# EAGLE library part PINHD-2X11 (library dpx-pinhead+)
PIN HEADER
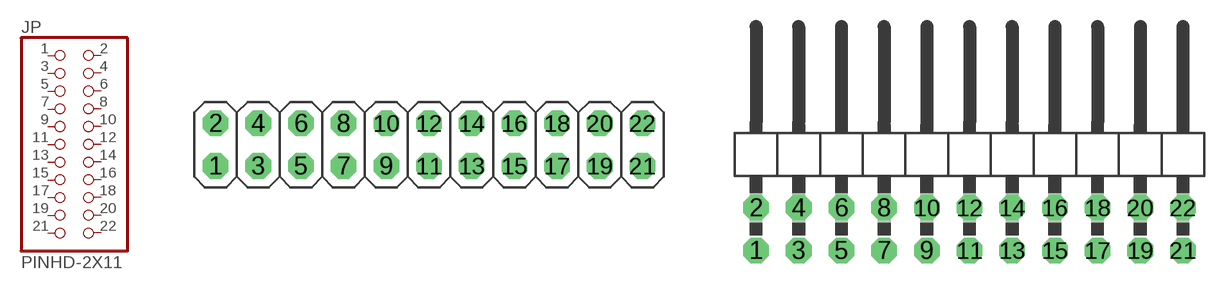
[diagram p30: symbol with the pads of 2X11; footprints 2X11, 2X11/90]

Designator prefix JP

## PINHD-2X11  [2X11]
1  1  pas
2  2  pas
3  3  pas
4  4  pas
5  5  pas
6  6  pas
7  7  pas
8  8  pas
9  9  pas
10  10  pas
11  11  pas
12  12  pas
13  13  pas
14  14  pas
15  15  pas
16  16  pas
17  17  pas
18  18  pas
19  19  pas
20  20  pas
21  21  pas
22  22  pas

## PINHD-2X11/90  [2X11/90]
Pads as for 2X11

## PINHD-2X11SMT  [2X11_SMT]
Pads as for 2X11

## Footprint 2X11 (pad centres in mm)
PIN HEADER
drill 1.016 octagon: 1 -12.7,-1.27; 2 -12.7,1.27; 3 -10.16,-1.27; 4 -10.16,1.27; 5 -7.62,-1.27; 6 -7.62,1.27; 7 -5.08,-1.27; 8 -5.08,1.27; 9 -2.54,-1.27; 10 -2.54,1.27; 11 0,-1.27; 12 0,1.27; 13 2.54,-1.27; 14 2.54,1.27; 15 5.08,-1.27; 16 5.08,1.27; 17 7.62,-1.27; 18 7.62,1.27; 19 10.16,-1.27; 20 10.16,1.27; 21 12.7,-1.27; 22 12.7,1.27

## Footprint 2X11/90 (pad centres in mm)
PIN HEADER
drill 1.016 octagon: 1 -12.7,-6.35; 2 -12.7,-3.81; 3 -10.16,-6.35; 4 -10.16,-3.81; 5 -7.62,-6.35; 6 -7.62,-3.81; 7 -5.08,-6.35; 8 -5.08,-3.81; 9 -2.54,-6.35; 10 -2.54,-3.81; 11 0,-6.35; 12 0,-3.81; 13 2.54,-6.35; 14 2.54,-3.81; 15 5.08,-6.35; 16 5.08,-3.81; 17 7.62,-6.35; 18 7.62,-3.81; 19 10.16,-6.35; 20 10.16,-3.81; 21 12.7,-6.35; 22 12.7,-3.81

## Footprint 2X11_SMT (pad centres in mm)
smd 1.27 x 2.032: 1 -12.7,-2.921; 2 -12.7,2.921; 3 -10.16,-2.921; 4 -10.16,2.921; 5 -7.62,-2.921; 6 -7.62,2.921; 7 -5.08,-2.921; 8 -5.08,2.921; 9 -2.54,-2.921; 10 -2.54,2.921; 11 0,-2.921; 12 0,2.921; 13 2.54,-2.921; 14 2.54,2.921; 15 5.08,-2.921; 16 5.08,2.921; 17 7.62,-2.921; 18 7.62,2.921; 19 10.16,-2.921; 20 10.16,2.921; 21 12.7,-2.921; 22 12.7,2.921